# EAGLE library part LT3575IFEPBF (library LT3575)
Isolated Flyback Converter without an Opto-Coupler
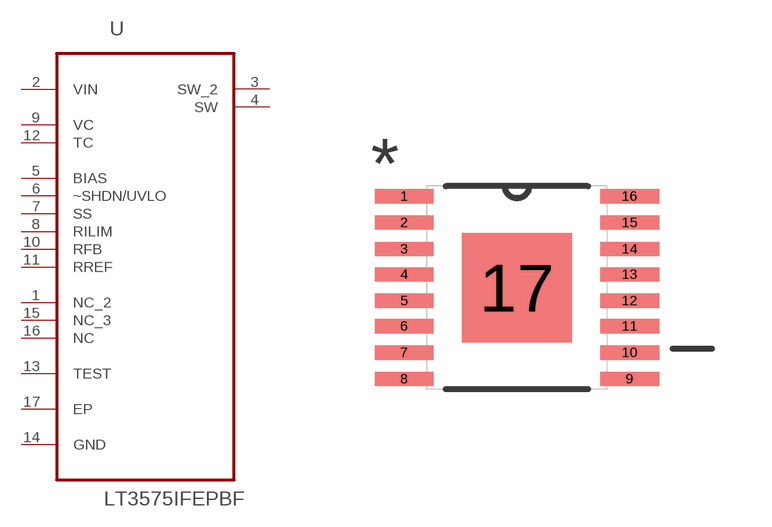
[diagram p0: symbol with the pads of SOP65P640X110-17N; footprint SOP65P640X110-17N]

Designator prefix U

## LT3575IFEPBF (MPN: LT3575IFE#PBF; OC_FARNELL: 1898626; OC_NEWARK: 84R5097; PACKAGE: TSSOP-16; SUPPLIER: Linear Technology)  [SOP65P640X110-17N]
1  NC_2  nc
2  VIN  pwr
3  SW_2  out
4  SW  out
5  BIAS  in
6  ~SHDN/UVLO  in
7  SS  in
8  RILIM  in
9  VC  in
10  RFB  in
11  RREF  in
12  TC  pas
13  TEST  pas
14  GND  pas
15  NC_3  nc
16  NC  nc
17  EP  pas

## Footprint SOP65P640X110-17N (pad centres in mm)
smd 1.473 x 0.356: 1 -2.819,2.286; 2 -2.819,1.626; 3 -2.819,0.965; 4 -2.819,0.33; 5 -2.819,-0.33; 6 -2.819,-0.965; 7 -2.819,-1.626; 8 -2.819,-2.286; 9 2.819,-2.286; 10 2.819,-1.626; 11 2.819,-0.965; 12 2.819,-0.33; 13 2.819,0.33; 14 2.819,0.965; 15 2.819,1.626; 16 2.819,2.286
smd 2.743 x 2.743: 17 0,0